# Altium integrated library RT9193-33GB.IntLib: 1 symbol
Pins are listed as number, name and electrical type; pins without a type are passive.

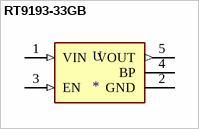
[diagram p0: symbol RT9193-33GB]

## RT9193-33GB
designator U
Linear Voltage Regulator IC 1 Output 300mA SOT-23-5; MP: RT9193-33GB; MF: Richtek USA; Availability: Unavailable; Package: SOT-23-5 Richtek; SnapEDA_Link: https://www.snapeda.com/parts/RT9193-33GB/Richtek%20USA%20Inc./view-part/55570/?ref=snap; Value: *; Price: None
footprint SOT94P279X129-5N
pins: 1 VIN (in), 2 GND (power), 3 EN (in), 4 BP, 5 VOUT (out)